# EAGLE library part PINHD-1X7 (library drazzy_pinhead)
PIN HEADER
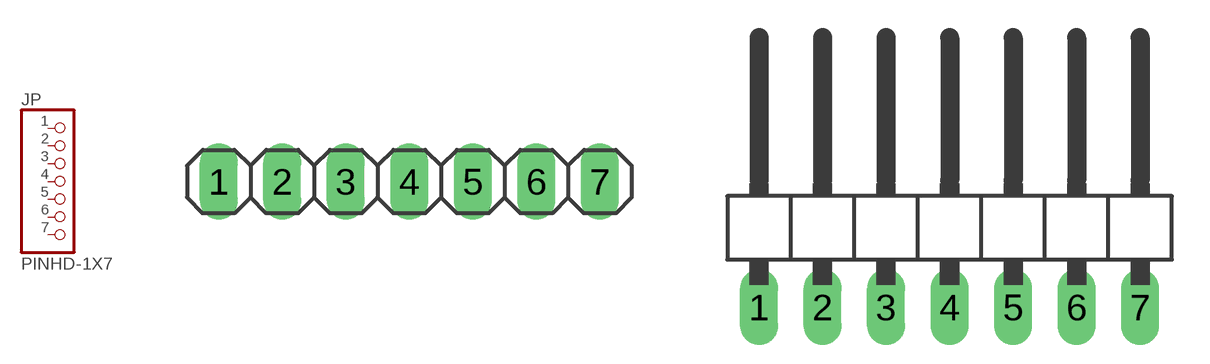
[diagram p1: symbol with the pads of 1X07; footprints 1X07, 1X07/90]

Designator prefix JP

## PINHD-1X7  [1X07]
1  1  pas
2  2  pas
3  3  pas
4  4  pas
5  5  pas
6  6  pas
7  7  pas

## PINHD-1X7/90  [1X07/90]
Pads as for 1X07

## PINHD-1X71X07_SMT  [1X07_SMT]
Pads as for 1X07

## PINHD-1X71X07_SMD  [1X07_SMD]
P$1  1  pas
P$2  2  pas
P$3  3  pas
P$4  4  pas
P$5  5  pas
P$6  6  pas
P$7  7  pas

## PINHD-1X71X07_PTH_RND  [1X07_PTH_RND]
Pads as for 1X07

## Footprint 1X07 (pad centres in mm)
PIN HEADER
drill 1.016 long: 1 -7.62,0; 2 -5.08,0; 3 -2.54,0; 4 0,0; 5 2.54,0; 6 5.08,0; 7 7.62,0

## Footprint 1X07/90 (pad centres in mm)
PIN HEADER
drill 1.016 long: 1 -7.62,-3.81; 2 -5.08,-3.81; 3 -2.54,-3.81; 4 0,-3.81; 5 2.54,-3.81; 6 5.08,-3.81; 7 7.62,-3.81

## Footprint 1X07_SMT (pad centres in mm)
smd 1 x 2.5: 1 -7.62,1.52; 2 -5.08,-1.52; 3 -2.54,1.52; 4 0,-1.52; 5 2.54,1.52; 6 5.08,-1.52; 7 7.62,1.52

## Footprint 1X07_SMD (pad centres in mm)
smd 0.813 x 1.676: P$1 -7.62,0; P$2 -5.08,0; P$3 -2.54,0; P$4 0,0; P$5 2.54,0; P$6 5.08,0; P$7 7.62,0

## Footprint 1X07_PTH_RND (pad centres in mm)
PIN HEADER
drill 1.016 square: 1 -7.62,0
drill 1.016: 2 -5.08,0; 3 -2.54,0; 4 0,0; 5 2.54,0; 6 5.08,0; 7 7.62,0